# EAGLE library part EPIC-STORE_A (library epic)
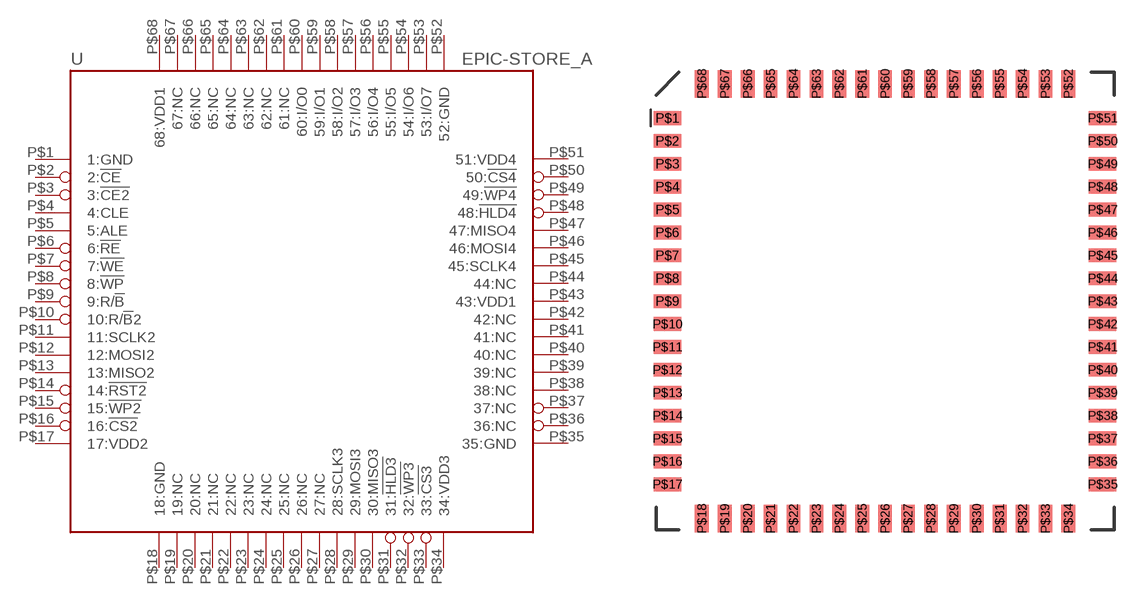
[diagram p16: symbol with the pads of EPIC-LCC68; footprint EPIC-LCC68]

Designator prefix U

## EPIC-STORE_A  [EPIC-LCC68]
P$1  1:GND
P$2  2:!CE
P$3  3:!CE2
P$4  4:CLE
P$5  5:ALE
P$6  6:!RE
P$7  7:!WE
P$8  8:!WP
P$9  9:R/!B
P$10  10:R/!B!2
P$11  11:SCLK2
P$12  12:MOSI2
P$13  13:MISO2
P$14  14:!RST2
P$15  15:!WP2
P$16  16:!CS2
P$17  17:VDD2
P$18  18:GND
P$19  19:NC
P$20  20:NC
P$21  21:NC
P$22  22:NC
P$23  23:NC
P$24  24:NC
P$25  25:NC
P$26  26:NC
P$27  27:NC
P$28  28:SCLK3
P$29  29:MOSI3
P$30  30:MISO3
P$31  31:!HLD3
P$32  32:!WP3
P$33  33:!CS3
P$34  34:VDD3
P$35  35:GND
P$36  36:NC
P$37  37:NC
P$38  38:NC
P$39  39:NC
P$40  40:NC
P$41  41:NC
P$42  42:NC
P$43  43:VDD1
P$44  44:NC
P$45  45:SCLK4
P$46  46:MOSI4
P$47  47:MISO4
P$48  48:!HLD4
P$49  49:!WP4
P$50  50:!CS4
P$51  51:VDD4
P$52  52:GND
P$53  53:I/O7
P$54  54:I/O6
P$55  55:I/O5
P$56  56:I/O4
P$57  57:I/O3
P$58  58:I/O2
P$59  59:I/O1
P$60  60:I/O0
P$61  61:NC
P$62  62:NC
P$63  63:NC
P$64  64:NC
P$65  65:NC
P$66  66:NC
P$67  67:NC
P$68  68:VDD1

## Footprint EPIC-LCC68 (pad centres in mm)
smd 1.524 x 0.762: P$1 -12.065,10.16; P$2 -12.065,8.89; P$3 -12.065,7.62; P$4 -12.065,6.35; P$5 -12.065,5.08; P$6 -12.065,3.81; P$7 -12.065,2.54; P$8 -12.065,1.27; P$9 -12.065,0; P$10 -12.065,-1.27; P$11 -12.065,-2.54; P$12 -12.065,-3.81; P$13 -12.065,-5.08; P$14 -12.065,-6.35; P$15 -12.065,-7.62; P$16 -12.065,-8.89; P$17 -12.065,-10.16; P$35 12.065,-10.16; P$36 12.065,-8.89; P$37 12.065,-7.62; P$38 12.065,-6.35; P$39 12.065,-5.08; P$40 12.065,-3.81; P$41 12.065,-2.54; P$42 12.065,-1.27; P$43 12.065,0; P$44 12.065,1.27; P$45 12.065,2.54; P$46 12.065,3.81; P$47 12.065,5.08; P$48 12.065,6.35; P$49 12.065,7.62; P$50 12.065,8.89; P$51 12.065,10.16
smd 0.762 x 1.524: P$18 -10.16,-12.065; P$19 -8.89,-12.065; P$20 -7.62,-12.065; P$21 -6.35,-12.065; P$22 -5.08,-12.065; P$23 -3.81,-12.065; P$24 -2.54,-12.065; P$25 -1.27,-12.065; P$26 0,-12.065; P$27 1.27,-12.065; P$28 2.54,-12.065; P$29 3.81,-12.065; P$30 5.08,-12.065; P$31 6.35,-12.065; P$32 7.62,-12.065; P$33 8.89,-12.065; P$34 10.16,-12.065; P$52 10.16,12.065; P$53 8.89,12.065; P$54 7.62,12.065; P$55 6.35,12.065; P$56 5.08,12.065; P$57 3.81,12.065; P$58 2.54,12.065; P$59 1.27,12.065; P$60 0,12.065; P$61 -1.27,12.065; P$62 -2.54,12.065; P$63 -3.81,12.065; P$64 -5.08,12.065; P$65 -6.35,12.065; P$66 -7.62,12.065; P$67 -8.89,12.065; P$68 -10.16,12.065